# Altium schematic symbol library DWM1000.Schlib: 1 symbol
Pins are listed as number, name and electrical type; pins without a type are passive.

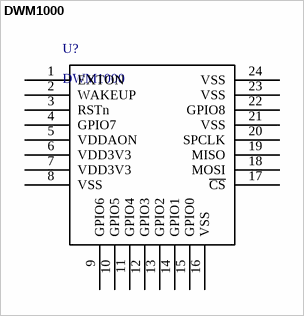
[diagram p0: symbol DWM1000]

## DWM1000
designator U?
Ultra Wide-Band transceiver module
pins: 1 EXTON, 2 WAKEUP, 3 RSTn, 4 GPIO7, 5 VDDAON, 6 VDD3V3, 7 VDD3V3, 8 VSS, 9 GPIO6, 10 GPIO5, 11 GPIO4, 12 GPIO3, 13 GPIO2, 14 GPIO1, 15 GPIO0, 16 VSS, 17 ~{CS}, 18 MOSI, 19 MISO, 20 SPCLK, 21 VSS, 22 GPIO8, 23 VSS, 24 VSS